# Altium schematic symbol library Elementary items.SchLib: 21 symbols
Pins are listed as number, name and electrical type; pins without a type are passive.

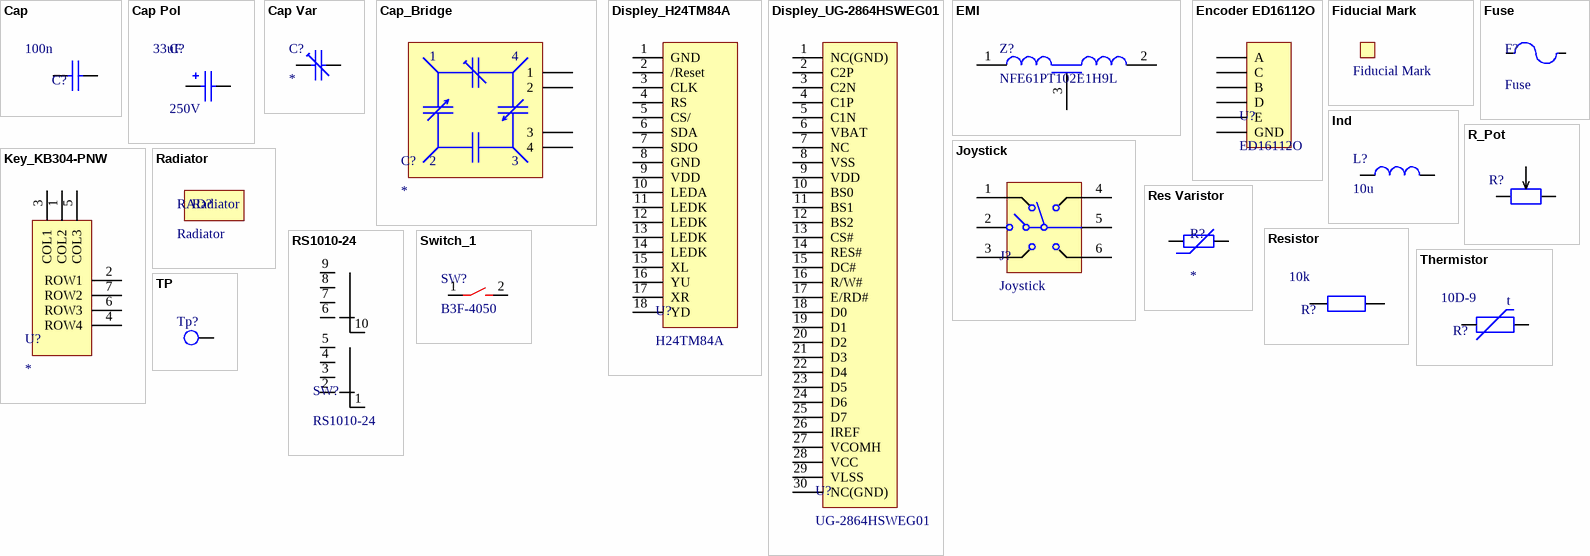
[diagram p0: symbols Cap to TP]

## Cap
designator C?, comment 100n
Capacitor; Published: 8-Jun-2000; LatestRevisionDate: 17-Jul-2002; LatestRevisionNote: Re-released for DXP Platform.; PackageReference: RAD-0.3; Publisher: Altium Limited; PackageDescription: Radial Cap, Thru-Hole; 2 Leads; 0.3 in Pin Spacing; Value: 100n; Voltage: *
simulation model CAP (Capacitor)
signal-integrity model Cap
footprint C_0805 (Chip Resistor, Body 2.0x1.2mm, IPC Medium Density)
footprint C_1206 (Chip Capacitor, Body 3.2x1.6mm, IPC High Density)
footprint C_1210 (Chip Capacitor, Body 3.2x2.5mm, IPC High Density)
footprint C_1825 (Chip Capacitor, Body 4.5x6.4mm, IPC High Density)
footprint C_2220 (Chip Capacitor, Body 5.7x5.0mm, IPC High Density)
footprint C_2225 (Chip Capacitor, Body 5.7x6.4mm, IPC High Density)
footprint C_2828 (Chip Capacitor, Body 2.8x2.8mm, IPC Medium Density)
footprint C_L10mm
footprint C_L15mm
footprint C_L22mm
footprint C_0603
footprint C_WIMA_37.5
footprint C_L27.5
footprint C_L22mm
footprint C_L15mm
footprint C_L10mm
footprint C_WIMA_5
pins: 1, 2

## Cap Pol
designator C?, comment 33uF  Voltage: 250V
Polarized Capacitor (Radial); Published: 8-Jun-2000; LatestRevisionDate: 17-Jul-2002; LatestRevisionNote: Re-released for DXP Platform.; PackageReference: RB7.6-15; Publisher: Altium Limited; PackageDescription: Polarized Capacitor (Radial); 2 Leads; ComponentLink2Description: Shop; ComponentLink2URL: *; Value: 33uF
simulation model CAP (Capacitor)
signal-integrity model Cap Pol
footprint C_D6.3_2.5mm
footprint C_D8_3.5mm
footprint C_D10_5mm
footprint C_D10_5mm_Horizont
footprint C_D12.5_5mm
footprint C_D16_7.5mm
footprint C_D18_7.5mm
footprint C_D30_10mm
footprint C_SMD_E12 (Molded Capacitor, 2-Leads, Body 3,2x1,6mm, IPC Medium Density)
footprint C_SMD_F12 (Molded Capacitor, 2-Leads, Body 3,2x1,6mm, IPC Medium Density)
footprint C_SMD_C (Molded Capacitor, 2-Leads, Body 3,2x1,6mm, IPC Medium Density)
footprint C_size-A (Chip Capacitor, Body 3.2x1.6mm, IPC High Density)
footprint C_size-B (Chip Capacitor, Body 3.2x2.5mm, IPC High Density)
footprint C_size-E (Chip Capacitor, Body 3.2x2.5mm, IPC High Density)
footprint C_size-C (Chip Capacitor, Body 3.2x2.5mm, IPC High Density)
footprint C_size-D (Chip Capacitor, Body 3.2x2.5mm, IPC High Density)
pins: 1, 2
1 alternate drawing of the same symbol

## Cap Var
designator C?
Value: *
footprint C_Trimmer_SMD_5mm
pins: 1, 2

## Cap_Bridge
designator C?
footprint PLS-4
pins: 1, 2, 3, 4

## Displey_H24TM84A
designator U?, comment H24TM84A
footprint H24TM84A
pins: 1 GND, 2 /Reset, 3 CLK, 4 RS, 5 CS/, 6 SDA, 7 SDO, 8 GND, 9 VDD, 10 LEDA, 11 LEDK, 12 LEDK, 13 LEDK, 14 LEDK, 15 XL, 16 YU, 17 XR, 18 YD

## Displey_UG-2864HSWEG01
designator U?, comment UG-2864HSWEG01
footprint Displey_UG-2864HSWEG01
pins: 1 NC(GND), 2 C2P, 3 C2N, 4 C1P, 5 C1N, 6 VBAT, 7 NC, 8 VSS, 9 VDD, 10 BS0, 11 BS1, 12 BS2, 13 CS#, 14 RES#, 15 DC#, 16 R/W#, 17 E/RD#, 18 D0, 19 D1, 20 D2, 21 D3, 22 D4, 23 D5, 24 D6, 25 D7, 26 IREF, 27 VCOMH, 28 VCC, 29 VLSS, 30 NC(GND)

## EMI
designator Z?, comment NFE61PT102E1H9L
FILTER LC HIGH FREQ 1000PF 2606; Manufacturer: Murata Electronics North America; Values: C = 1000pF; Number of Channels: 1; Current: 2A; Operating Temperature: -40°C ~ 85°C; Technology: LC (T-Type); Size / Dimension: 0.268" L x 0.063" W (6.80mm x 1.60mm); Type: Low Pass; Applications: General Purpose; Category: Filters; Manufacturer Part Number: NFE61PT102E1H9L; Height: 0.075" (1.90mm); Package / Case: 2706 (6816 Metric), 3 PC Pad; ComponentLink1URL: http://search.murata.co.jp/Ceramy/image/img/PDF/ENG/L0112S0113NFE61P.pdf; ComponentLink1Description: http://search.murata.co.jp/Ceramy/image/img/PDF/ENG/L0112S0113NFE61P.pdf
footprint EMI_2606
pins: 1, 2, 3

## Encoder ED16112O
designator U?, comment ED16112O
Mechanical encoder; 24imp/revol; 6.5x17.6x16mm; Uoper.max:50VAC; Manufacturer Part Number: ED16112O-FB20B12-A24-100-G12; SuppliedAmount: 380; Body dimensions: 6.5 x 17.6 x 16mm; Sensor type: mechanical encoder; Mounting: vertical; Features: output in 2 bit Gray code, shaft 6 mm; Category: Encoders; Supplier Part Number: ED16112O
footprint Encoder ED16112O
footprint Encoder ED16112O_SMD
pins: 0 GND, 1 A, 2 C, 3 B, 4 D, 5 E

## Fiducial Mark
designator ?
footprint Fiducial Mark

## Fuse
designator F?
Published: 8-Jun-2000; LatestRevisionDate: 17-Jul-2002; LatestRevisionNote: Re-released for DXP Platform.; PackageReference: PIN-W2/E2.8; Publisher: Altium Limited
simulation model FUSE (Spice Subcircuit)
footprint Fuse
footprint Fuse_BELFUSE
pins: 1, 2

## Ind
designator L?, comment 10u
Inductance; Value: 10u
footprint Choke_E65
footprint Choke_K28x16x9
footprint Choke_0805 (Chip Resistor, Body 2.0x1.2mm, IPC Medium Density)
footprint Choke_1206 (Chip Resistor, Body 3.2x1.6mm)
footprint Choke_1210 (Chip Resistor, Body 3.2x2.5mm)
footprint Choke_2010 (Chip Resistor, Body 5.0x2.5mm)
footprint Choke_2512 (Chip Resistor, Body 6.4x3.2mm, IPC High Density)
footprint Choke_SMD_10x10mm
footprint Choke_D20mm
footprint Choke_D10mm
footprint Choke_D14mm
footprint Choke_0603 (Chip Resistor, Body 2.0x1.2mm, IPC Medium Density)
pins: 1, 2

## Joystick
designator J?
Joystick 0.05A/12VDC Mounting: SMD 7.4x7.5mm; Mounting: SMD; Body dimensions: 7.4 x 7.5mm; DC contacts rating: 0.05 A / 12 VDC; Category: Joysticks
footprint Joystick_SMD
pins: 1, 2, 3, 4, 5, 6

## Key_KB304-PNW
designator U?
footprint Key_KB304-PNW
pins: 1 COL2, 2 ROW1, 3 COL1, 4 ROW4, 5 COL3, 6 ROW3, 7 ROW2

## R_Pot
designator R?
R_Pot
footprint R_TRIMM
footprint R_Bourns_Trimm
footprint R_Cermet_Trimm
pins: 1, 2, 3

## Radiator
designator RAD?  (mechanical)
footprint Radiator

## Res Varistor
designator R?
Varistor (Voltage-Sensitive Resistor); Published: 24-Mar-1999; LatestRevisionDate: 29-May-2009; LatestRevisionNote: IPC-7351 Footprint Added.; PackageVersion: Mar-2003; PackageReference: 6-0805; Publisher: Altium Limited; PackageDescription: Chip Resistor 0805 Case Size; Code_IPC: RESC2012; Value: *
footprint RESC2012N (Chip Resistor, Body 2.0x1.2mm, IPC Medium Density)
footprint RESC2012L (Chip Resistor, Body 2.0x1.2mm, IPC High Density)
footprint RESC2012M (Chip Resistor, Body 2.0x1.2mm, IPC Low Density)
footprint Var_14K431
pins: 1, 2

## Resistor
designator R?, comment 10k
Резистор; ComponentLink1URL: http://www.k206.net/passive-components/resistors/5w.html; ComponentLink1Description: 5W; ComponentLink2URL: http://www.kosmodrom.com.ua/pdf/RC.pdf; ComponentLink2Description: SMD; Value: 10k
simulation model RESISTOR (Resistor)
footprint R_0805 (Chip Resistor, Body 2.0x1.2mm, IPC Medium Density)
footprint R_1206 (Chip Resistor, Body 3.2x1.6mm)
footprint R_1210 (Chip Resistor, Body 3.2x2.5mm)
footprint R_2010 (Chip Resistor, Body 5.0x2.5mm)
footprint R_15mm_2W
footprint R_20mm_2W
footprint R_27.5mm_5W
footprint R_0603
footprint R_2512 (Chip Resistor, Body 6.4x3.2mm, IPC High Density)
footprint R_10mm_5W
pins: 1, 2

## RS1010-24
designator SW?
SWITCH TACTILE SPST-NO 0.05A 24V; Manufacturer: Omron Electronics Inc-EMC Div; Outline: 12.00mm x 12.00mm; Contact Rating @ Voltage: 0.05A @ 24VDC; Switch Function: Off-Mom; Actuator Height off PCB, from Pins: 7.30mm; Switch Travel: 0.30mm; Mechanical Life: 3,000,000 Cycles; Mounting Type: Through Hole; Manufacturer Part Number: RS1010-24
footprint RS1010-24
pins: 1, 2, 3, 4, 5, 6, 7, 8, 9, 10

## Switch_1
designator SW?, comment B3F-4050
SWITCH TACTILE SPST-NO 0.05A 24V; Manufacturer: Omron Electronics Inc-EMC Div; Outline: 12.00mm x 12.00mm; Contact Rating @ Voltage: 0.05A @ 24VDC; Switch Function: Off-Mom; Actuator Height off PCB, from Pins: 7.30mm; Switch Travel: 0.30mm; Mechanical Life: 3,000,000 Cycles; Mounting Type: Through Hole; Manufacturer Part Number: B3F-4050
footprint Botton_1
footprint Botton_SMD
footprint Button_corner
pins: 1, 2

## Thermistor
designator R?, comment 10D-9
NTC thermistor; Value: 10D-9; Sensor type: NTC thermistor
footprint Thermistor_NTC_10D-9
footprint R_1206 (Chip Resistor, Body 3.2x1.6mm)
pins: 1, 2
text: t

## TP
designator Tp?  (value not drawn)
footprint Test_Point
pins: 1